# Altium footprint library L-SPE-EPL6024.PcbLib: 1 footprints
Each footprint in its own frame and in the unit in brackets; x right, y up, seen from the top. Pads: shape width x height; smd on the part's side, far side on the other; paste and mask are expansions set on the pad; w line width, h text height; cw(c..) or ccw(c..) is an arc to the next point about the centre after c.
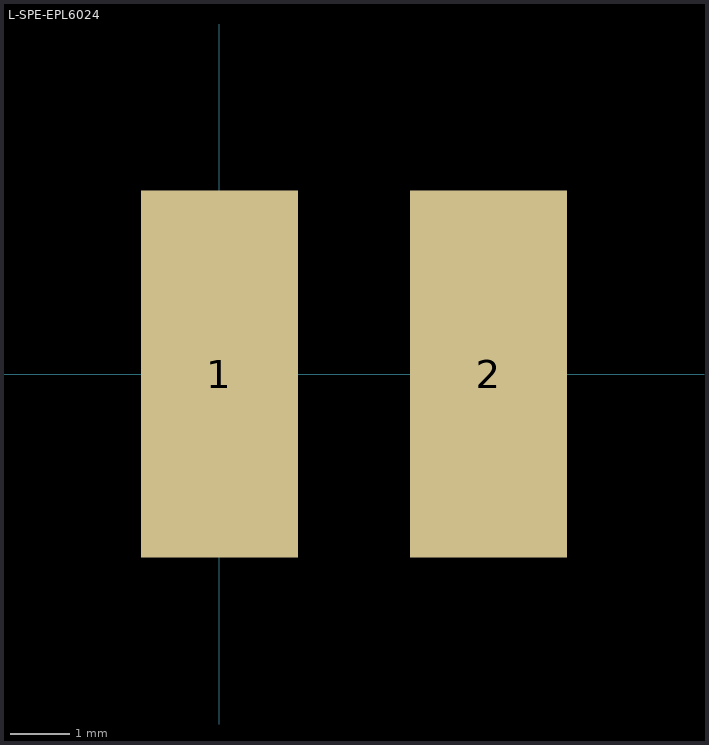
[diagram p0: the footprint, top view; thin cyan lines are the x and y axes]

## L-SPE-EPL6024 [mm]
pads (2):
  rect 2.65x6.2 smd: 1(0,0) 2(4.55,0)
3D body: height 2.3, standoff -0.1, extent -1.014,-3.1 5.586,3.1